# Altium schematic symbol library BuckBoostInductorTPS63051RMWR.SchLib: 1 symbol
Pins are listed as number, name and electrical type; pins without a type are passive.

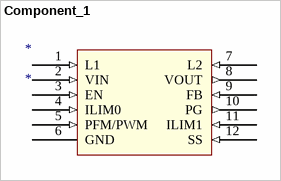
[diagram p0: symbol Component_1]

## Component_1
designator *
pins: 1 L1 (in), 2 VIN (in), 3 EN (in), 4 ILIM0 (in), 5 PFM/PWM (in), 6 GND (power), 7 L2 (in), 8 VOUT (out), 9 FB (in), 10 PG (out), 11 ILIM1 (in), 12 SS (in)